# Altium footprint library 7461084.PcbLib: 1 footprints
Each footprint in its own frame and in the unit in brackets; x right, y up, seen from the top. Pads: shape width x height; smd on the part's side, far side on the other; paste and mask are expansions set on the pad; w line width, h text height; cw(c..) or ccw(c..) is an arc to the next point about the centre after c.
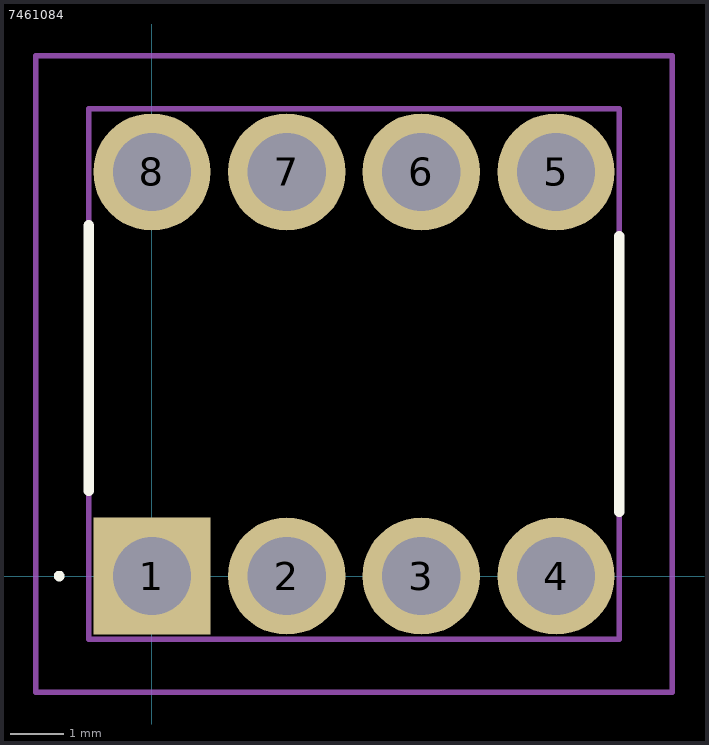
[diagram p0: the footprint, top view; thin cyan lines are the x and y axes]

## 7461084 [mm]
pads (8):
  rect 2.213x2.213 hole 1.475: 1(0,0)
  round 2.213 hole 1.475: 2(2.54,0) 3(5.08,0) 4(7.62,0) 5(7.62,7.62) 6(5.08,7.62) 7(2.54,7.62) 8(0,7.62)
Top Overlay:
  lines w0.1: -1.8,0 -1.8,0 ; -1.8,0 ccw(c-1.75,0) -1.7,0 ; -1.8,0 cw(c-1.75,0) -1.7,0 ; -1.7,0 -1.7,0
  lines w0.2: -1.19,1.61 -1.19,6.61 ; 8.81,1.21 8.81,6.41
Mechanical 15:
  lines w0.1: -1.19,-1.19 8.81,-1.19 8.81,8.81 -1.19,8.81 -1.19,-1.19
Mechanical 20:
  lines w0.1: -2.19,-2.19 9.81,-2.19 9.81,9.81 -2.19,9.81 -2.19,-2.19